# EAGLE library part PAPILIO_48BIT_NO_JTAG (library GadgetFactory_v1)
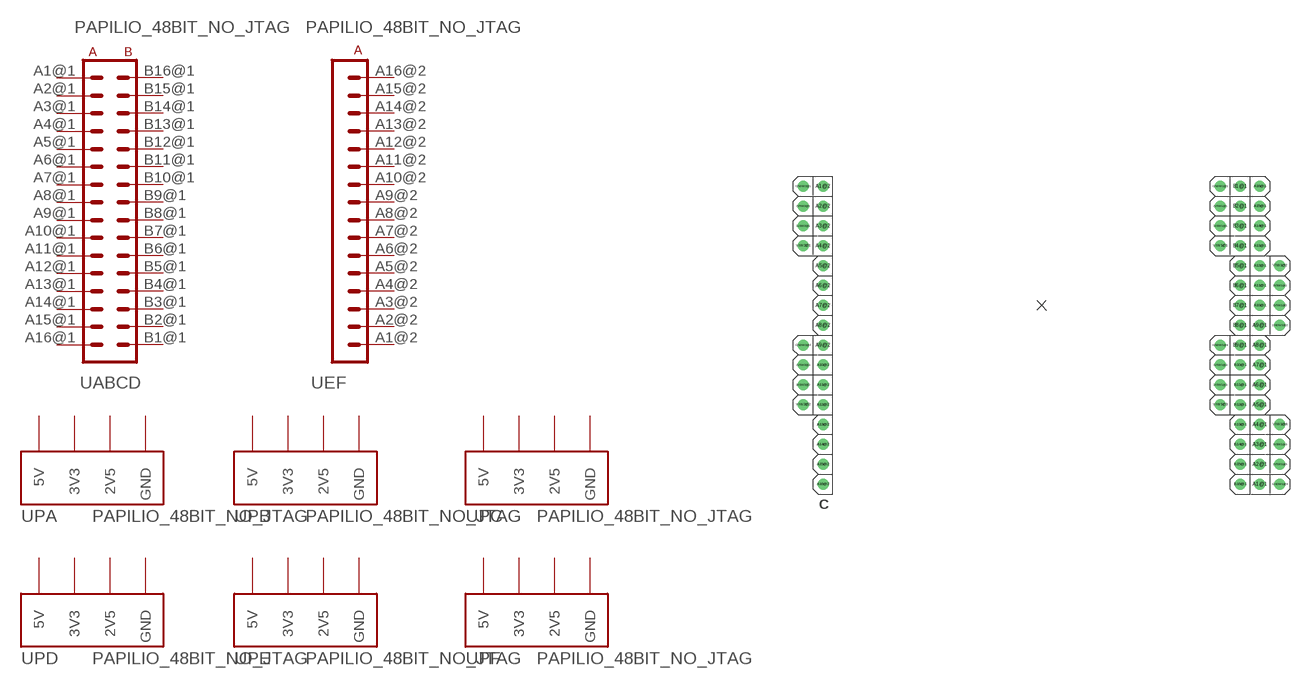
[diagram p12: symbol with the pads of COCOON_48BIT_NO_JTAG; footprint COCOON_48BIT_NO_JTAG]

Designator prefix -; gates ABCD=COCOON_32BIT EF=COCOON_16BIT_RIGHT PA=COCOON_SEGMENT_POWER PB=COCOON_SEGMENT_POWER PC=COCOON_SEGMENT_POWER PD=COCOON_SEGMENT_POWER PE=COCOON_SEGMENT_POWER PF=COCOON_SEGMENT_POWER

## PAPILIO_48BIT_NO_JTAG  [COCOON_48BIT_NO_JTAG]
2V5W1@1  PA:2V5  pwr
2V5W1@2  PB:2V5  pwr
2V5W1@3  PC:2V5  pwr
2V5W1@4  PD:2V5  pwr
2V5W2@1  PE:2V5  pwr
2V5W2@2  PF:2V5  pwr
3V3W1@1  PA:3V3  pwr
3V3W1@2  PB:3V3  pwr
3V3W1@3  PC:3V3  pwr
3V3W1@4  PD:3V3  pwr
3V3W2@1  PE:3V3  pwr
3V3W2@2  PF:3V3  pwr
A1@1  ABCD:A1  pas
A1@2  EF:A1  pas
A2@1  ABCD:A2  pas
A2@2  EF:A2  pas
A3@1  ABCD:A3  pas
A3@2  EF:A3  pas
A4@1  ABCD:A4  pas
A4@2  EF:A4  pas
A5@1  ABCD:A5  pas
A5@2  EF:A5  pas
A6@1  ABCD:A6  pas
A6@2  EF:A6  pas
A7@1  ABCD:A7  pas
A7@2  EF:A7  pas
A8@1  ABCD:A8  pas
A8@2  EF:A8  pas
A9@1  ABCD:A9  pas
A9@2  EF:A9  pas
A10@1  ABCD:A10  pas
A10@2  EF:A10  pas
A11@1  ABCD:A11  pas
A11@2  EF:A11  pas
A12@1  ABCD:A12  pas
A12@2  EF:A12  pas
A13@1  ABCD:A13  pas
A13@2  EF:A13  pas
A14@1  ABCD:A14  pas
A14@2  EF:A14  pas
A15@1  ABCD:A15  pas
A15@2  EF:A15  pas
A16@1  ABCD:A16  pas
A16@2  EF:A16  pas
B1@1  ABCD:B1  pas
B2@1  ABCD:B2  pas
B3@1  ABCD:B3  pas
B4@1  ABCD:B4  pas
B5@1  ABCD:B5  pas
B6@1  ABCD:B6  pas
B7@1  ABCD:B7  pas
B8@1  ABCD:B8  pas
B9@1  ABCD:B9  pas
B10@1  ABCD:B10  pas
B11@1  ABCD:B11  pas
B12@1  ABCD:B12  pas
B13@1  ABCD:B13  pas
B14@1  ABCD:B14  pas
B15@1  ABCD:B15  pas
B16@1  ABCD:B16  pas
GNDW1@1  PA:GND  pwr
GNDW1@2  PB:GND  pwr
GNDW1@3  PC:GND  pwr
GNDW1@4  PD:GND  pwr
GNDW2@1  PE:GND  pwr
GNDW2@2  PF:GND  pwr
VIW1@1  PA:5V  pwr
VIW1@2  PB:5V  pwr
VIW1@3  PC:5V  pwr
VIW1@4  PD:5V  pwr
VIW2@1  PE:5V  pwr
VIW2@2  PF:5V  pwr

## Footprint COCOON_48BIT_NO_JTAG (pad centres in mm)
drill 0.9: 2V5W1@1 52.07,16.51; 2V5W1@2 59.69,3.81; 2V5W1@3 52.07,-3.81; 2V5W1@4 59.69,-16.51; 2V5W2@1 -1.27,16.51; 2V5W2@2 -1.27,-3.81; 3V3W1@1 52.07,13.97; 3V3W1@2 59.69,6.35; 3V3W1@3 52.07,-6.35; 3V3W1@4 59.69,-13.97; 3V3W2@1 -1.27,13.97; 3V3W2@2 -1.27,-6.35; A1@1 57.15,-19.05; A1@2 1.27,19.05; A2@1 57.15,-16.51; A2@2 1.27,16.51; A3@1 57.15,-13.97; A3@2 1.27,13.97; A4@1 57.15,-11.43; A4@2 1.27,11.43; A5@1 57.15,-8.89; A5@2 1.27,8.89; A6@1 57.15,-6.35; A6@2 1.27,6.35; A7@1 57.15,-3.81; A7@2 1.27,3.81; A8@1 57.15,-1.27; A8@2 1.27,1.27; A9@1 57.15,1.27; A9@2 1.27,-1.27; A10@1 57.15,3.81; A10@2 1.27,-3.81; A11@1 57.15,6.35; A11@2 1.27,-6.35; A12@1 57.15,8.89; A12@2 1.27,-8.89; A13@1 57.15,11.43; A13@2 1.27,-11.43; A14@1 57.15,13.97; A14@2 1.27,-13.97; A15@1 57.15,16.51; A15@2 1.27,-16.51; A16@1 57.15,19.05; A16@2 1.27,-19.05; B1@1 54.61,19.05; B2@1 54.61,16.51; B3@1 54.61,13.97; B4@1 54.61,11.43; B5@1 54.61,8.89; B6@1 54.61,6.35; B7@1 54.61,3.81; B8@1 54.61,1.27; B9@1 54.61,-1.27; B10@1 54.61,-3.81; B11@1 54.61,-6.35; B12@1 54.61,-8.89; B13@1 54.61,-11.43; B14@1 54.61,-13.97; B15@1 54.61,-16.51; B16@1 54.61,-19.05; GNDW1@1 52.07,19.05; GNDW1@2 59.69,1.27; GNDW1@3 52.07,-1.27; GNDW1@4 59.69,-19.05; GNDW2@1 -1.27,19.05; GNDW2@2 -1.27,-1.27; VIW1@1 52.07,11.43; VIW1@2 59.69,8.89; VIW1@3 52.07,-8.89; VIW1@4 59.69,-11.43; VIW2@1 -1.27,11.43; VIW2@2 -1.27,-8.89